# EAGLE library part MT48LC4M32B2 (library quickdev_v2)
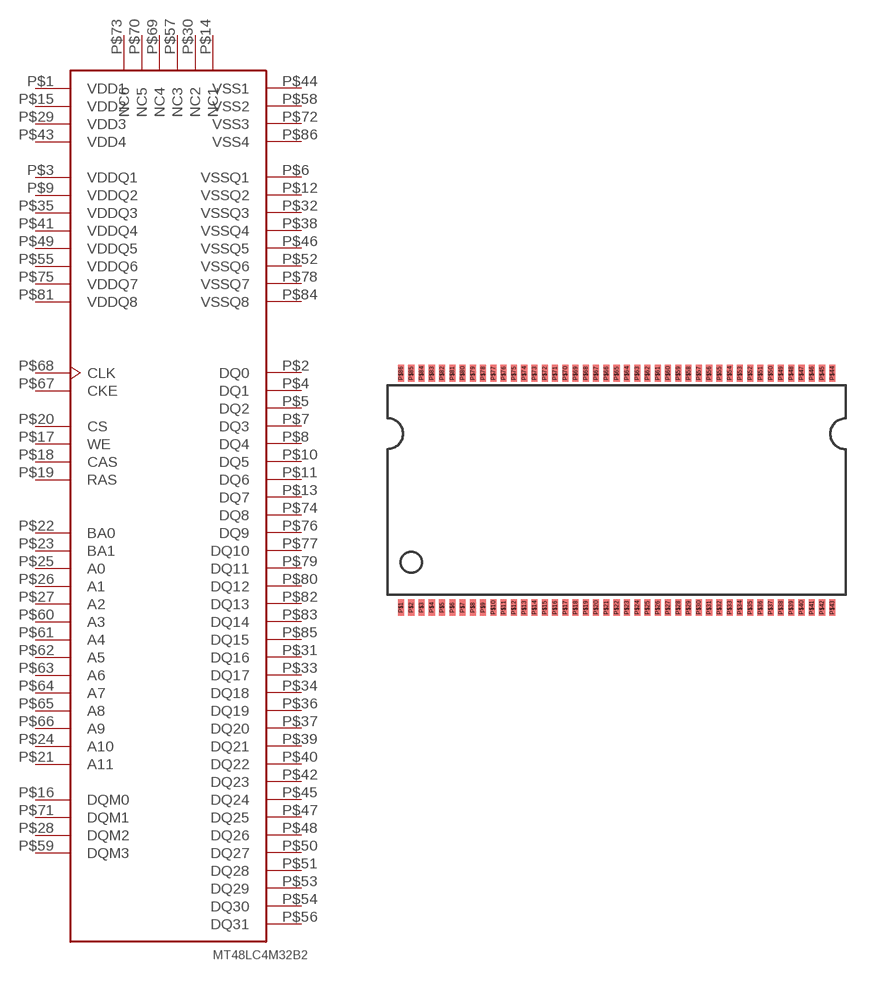
[diagram p0: symbol with the pads of 86TSOP; footprint 86TSOP]

Designator prefix -

## MT48LC4M32B2  [86TSOP]
P$1  VDD1  pwr
P$2  DQ0
P$3  VDDQ1  pwr
P$4  DQ1
P$5  DQ2
P$6  VSSQ1  pwr
P$7  DQ3
P$8  DQ4
P$9  VDDQ2  pwr
P$10  DQ5
P$11  DQ6
P$12  VSSQ2  pwr
P$13  DQ7
P$14  NC1  nc
P$15  VDD2  pwr
P$16  DQM0  in
P$17  WE  in
P$18  CAS  in
P$19  RAS  in
P$20  CS  in
P$21  A11  in
P$22  BA0  in
P$23  BA1  in
P$24  A10  in
P$25  A0  in
P$26  A1  in
P$27  A2  in
P$28  DQM2  in
P$29  VDD3  pwr
P$30  NC2  nc
P$31  DQ16
P$32  VSSQ3  pwr
P$33  DQ17
P$34  DQ18
P$35  VDDQ3  pwr
P$36  DQ19
P$37  DQ20
P$38  VSSQ4  pwr
P$39  DQ21
P$40  DQ22
P$41  VDDQ4  pwr
P$42  DQ23
P$43  VDD4  pwr
P$44  VSS1  pwr
P$45  DQ24
P$46  VSSQ5  pwr
P$47  DQ25
P$48  DQ26
P$49  VDDQ5  pwr
P$50  DQ27
P$51  DQ28
P$52  VSSQ6  pwr
P$53  DQ29
P$54  DQ30
P$55  VDDQ6  pwr
P$56  DQ31
P$57  NC3  nc
P$58  VSS2  pwr
P$59  DQM3  in
P$60  A3  in
P$61  A4  in
P$62  A5  in
P$63  A6  in
P$64  A7  in
P$65  A8  in
P$66  A9  in
P$67  CKE  in
P$68  CLK  in
P$69  NC4  nc
P$70  NC5  nc
P$71  DQM1  in
P$72  VSS3  pwr
P$73  NC6  nc
P$74  DQ8
P$75  VDDQ7  pwr
P$76  DQ9
P$77  DQ10
P$78  VSSQ7  pwr
P$79  DQ11
P$80  DQ12
P$81  VDDQ8  pwr
P$82  DQ13
P$83  DQ14
P$84  VSSQ8  pwr
P$85  DQ15
P$86  VSS4  pwr

## Footprint 86TSOP (pad centres in mm)
smd 0.295 x 0.813: P$1 -10.5,-5.7; P$2 -10,-5.7; P$3 -9.5,-5.7; P$4 -9,-5.7; P$5 -8.5,-5.7; P$6 -8,-5.7; P$7 -7.5,-5.7; P$8 -7,-5.7; P$9 -6.5,-5.7; P$10 -6,-5.7; P$11 -5.5,-5.7; P$12 -5,-5.7; P$13 -4.5,-5.7; P$14 -4,-5.7; P$15 -3.5,-5.7; P$16 -3,-5.7; P$17 -2.5,-5.7; P$18 -2,-5.7; P$19 -1.5,-5.7; P$20 -1,-5.7; P$21 -0.5,-5.7; P$22 0,-5.7; P$23 0.5,-5.7; P$24 1,-5.7; P$25 1.5,-5.7; P$26 2,-5.7; P$27 2.5,-5.7; P$28 3,-5.7; P$29 3.5,-5.7; P$30 4,-5.7; P$31 4.5,-5.7; P$32 5,-5.7; P$33 5.5,-5.7; P$34 6,-5.7; P$35 6.5,-5.7; P$36 7,-5.7; P$37 7.5,-5.7; P$38 8,-5.7; P$39 8.5,-5.7; P$40 9,-5.7; P$41 9.5,-5.7; P$42 10,-5.7; P$43 10.5,-5.7; P$44 10.5,5.7; P$45 10,5.7; P$46 9.5,5.7; P$47 9,5.7; P$48 8.5,5.7; P$49 8,5.7; P$50 7.5,5.7; P$51 7,5.7; P$52 6.5,5.7; P$53 6,5.7; P$54 5.5,5.7; P$55 5,5.7; P$56 4.5,5.7; P$57 4,5.7; P$58 3.5,5.7; P$59 3,5.7; P$60 2.5,5.7; P$61 2,5.7; P$62 1.5,5.7; P$63 1,5.7; P$64 0.5,5.7; P$65 0,5.7; P$66 -0.5,5.7; P$67 -1,5.7; P$68 -1.5,5.7; P$69 -2,5.7; P$70 -2.5,5.7; P$71 -3,5.7; P$72 -3.5,5.7; P$73 -4,5.7; P$74 -4.5,5.7; P$75 -5,5.7; P$76 -5.5,5.7; P$77 -6,5.7; P$78 -6.5,5.7; P$79 -7,5.7; P$80 -7.5,5.7; P$81 -8,5.7; P$82 -8.5,5.7; P$83 -9,5.7; P$84 -9.5,5.7; P$85 -10,5.7; P$86 -10.5,5.7